# Altium schematic symbol library LCD.SchLib: 8 symbols
Pins are listed as number, name and electrical type; pins without a type are passive.

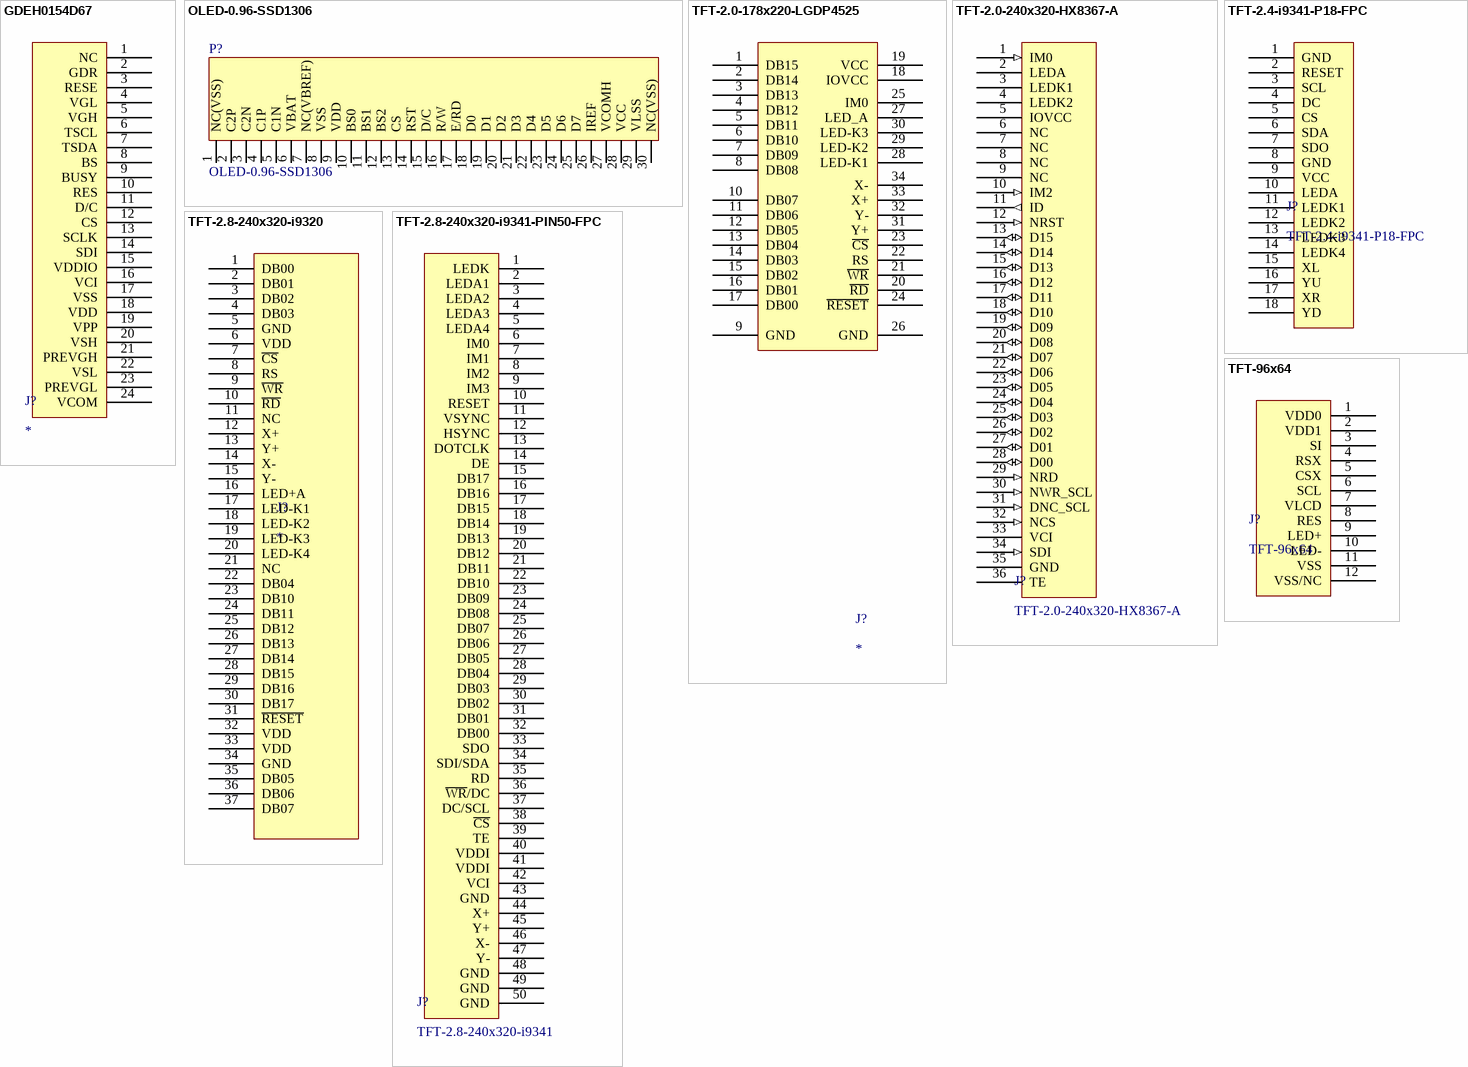
[diagram p0: symbols GDEH0154D67 to TFT-96x64]

## GDEH0154D67
designator J?
E-ink GDEH0154D67
pins: 1 NC, 2 GDR, 3 RESE, 4 VGL, 5 VGH, 6 TSCL, 7 TSDA, 8 BS, 9 BUSY, 10 RES, 11 D/C, 12 CS, 13 SCLK, 14 SDI, 15 VDDIO, 16 VCI, 17 VSS, 18 VDD, 19 VPP, 20 VSH, 21 PREVGH, 22 VSL, 23 PREVGL, 24 VCOM

## OLED-0.96-SSD1306
designator P?
footprint OLED_0.96_SSD1306
pins: 1 NC(VSS), 2 C2P, 3 C2N, 4 C1P, 5 C1N, 6 VBAT, 7 NC(VBREF), 8 VSS, 9 VDD, 10 BS0, 11 BS1, 12 BS2, 13 CS, 14 RST, 15 D/C, 16 R/W, 17 E/RD, 18 D0, 19 D1, 20 D2, 21 D3, 22 D4, 23 D5, 24 D6, 25 D7, 26 IREF, 27 VCOMH, 28 VCC, 29 VLSS, 30 NC(VSS)

## TFT-2.0-178x220-LGDP4525
designator J?
LGDP4525-178x220
footprint TFT2.0
pins: 1 DB15, 2 DB14, 3 DB13, 4 DB12, 5 DB11, 6 DB10, 7 DB09, 8 DB08, 9 GND, 10 DB07, 11 DB06, 12 DB05, 13 DB04, 14 DB03, 15 DB02, 16 DB01, 17 DB00, 18 IOVCC, 19 VCC, 20 ~{RD}, 21 ~{WR}, 22 RS, 23 ~{CS}, 24 ~{RESET}, 25 IM0, 26 GND, 27 LED_A, 28 LED-K1, 29 LED-K2, 30 LED-K3, 31 Y+, 32 Y-, 33 X+, 34 X-, 35 FMARK hidden, 36 NC hidden

## TFT-2.0-240x320-HX8367-A
designator J?
pins: 1 IM0 (in), 2 LEDA, 3 LEDK1, 4 LEDK2, 5 IOVCC (power), 6 NC, 7 NC, 8 NC, 9 NC, 10 IM2 (in), 11 ID (out), 12 NRST (in), 13 D15 (io), 14 D14 (io), 15 D13 (io), 16 D12 (io), 17 D11 (io), 18 D10 (io), 19 D09 (io), 20 D08 (io), 21 D07 (io), 22 D06 (io), 23 D05 (io), 24 D04 (io), 25 D03 (io), 26 D02 (io), 27 D01 (io), 28 D00 (io), 29 NRD (in), 30 NWR_SCL (in), 31 DNC_SCL (in), 32 NCS (in), 33 VCI (power), 34 SDI (in), 35 GND (power), 36 TE

## TFT-2.4-i9341-P18-FPC
designator J?
footprint H24TM84A (TFT-PIN18-0.8MM)
pins: 1 GND, 2 RESET, 3 SCL, 4 DC, 5 CS, 6 SDA, 7 SDO, 8 GND, 9 VCC, 10 LEDA, 11 LEDK1, 12 LEDK2, 13 LEDK3, 14 LEDK4, 15 XL, 16 YU, 17 XR, 18 YD

## TFT-2.8-240x320-i9320
designator J?
i9320-240x320
footprint TFT-PIN37-0.5MM
pins: 1 DB00, 2 DB01, 3 DB02, 4 DB03, 5 GND, 6 VDD, 7 ~{CS}, 8 RS, 9 ~{WR}, 10 ~{RD}, 11 NC, 12 X+, 13 Y+, 14 X-, 15 Y-, 16 LED+A, 17 LED-K1, 18 LED-K2, 19 LED-K3, 20 LED-K4, 21 NC, 22 DB04, 23 DB10, 24 DB11, 25 DB12, 26 DB13, 27 DB14, 28 DB15, 29 DB16, 30 DB17, 31 ~{RESET}, 32 VDD, 33 VDD, 34 GND, 35 DB05, 36 DB06, 37 DB07

## TFT-2.8-240x320-i9341-PIN50-FPC
designator J?, comment TFT-2.8-240x320-i9341
TFT-2.8-240x320-i9341-PIN50-FPC
footprint FPC-0.5-PIN50 (Footprint not found)
pins: 1 LEDK, 2 LEDA1, 3 LEDA2, 4 LEDA3, 5 LEDA4, 6 IM0, 7 IM1, 8 IM2, 9 IM3, 10 RESET, 11 VSYNC, 12 HSYNC, 13 DOTCLK, 14 DE, 15 DB17, 16 DB16, 17 DB15, 18 DB14, 19 DB13, 20 DB12, 21 DB11, 22 DB10, 23 DB09, 24 DB08, 25 DB07, 26 DB06, 27 DB05, 28 DB04, 29 DB03, 30 DB02, 31 DB01, 32 DB00, 33 SDO, 34 SDI/SDA, 35 RD, 36 ~{WR}/DC, 37 DC/SCL, 38 ~{CS}, 39 TE, 40 VDDI, 41 VDDI, 42 VCI, 43 GND, 44 X+, 45 Y+, 46 X-, 47 Y-, 48 GND, 49 GND, 50 GND

## TFT-96x64
designator J?
footprint TFT-PIN12-0.5
pins: 1 VDD0, 2 VDD1, 3 SI, 4 RSX, 5 CSX, 6 SCL, 7 VLCD, 8 RES, 9 LED+, 10 LED-, 11 VSS, 12 VSS/NC